# Altium footprint library TYPE-C-31-M-12.PcbLib: 1 footprints
Each footprint in its own frame and in the unit in brackets; x right, y up, seen from the top. Pads: shape width x height; smd on the part's side, far side on the other; paste and mask are expansions set on the pad; w line width, h text height; cw(c..) or ccw(c..) is an arc to the next point about the centre after c.
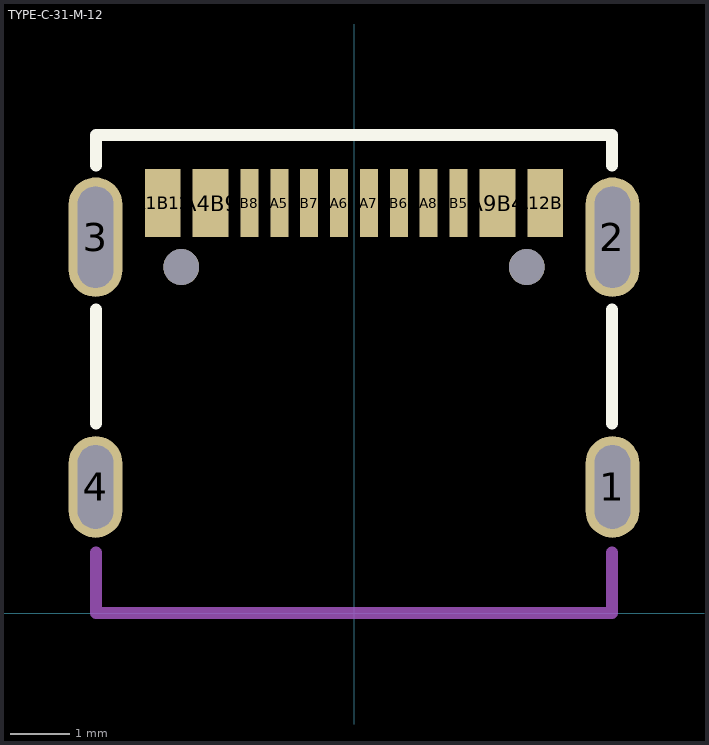
[diagram p0: the footprint, top view; thin cyan lines are the x and y axes]

## TYPE-C-31-M-12 [mm] "1 16P 5A Female Type-C SMD USB Connectors ROHS"
pads (18):
  oval 0.9x1.7 hole 0.6 slot 1.4 at 90 deg: 1(4.325,2.11) 4(-4.325,2.11)
  oval 0.9x2 hole 0.6 slot 1.7 at 90 deg: 2(4.325,6.29) 3(-4.325,6.29)
  rect 0.6x1.14 smd mask+0.05: A1B12(-3.2,6.86) A4B9(-2.4,6.86) A9B4(2.4,6.86) A12B1(3.2,6.86)
  rect 0.3x1.14 smd mask+0.05: A5(-1.25,6.86) A6(-0.25,6.86) A7(0.25,6.86) A8(1.25,6.86) B5(1.75,6.86) B6(0.75,6.86) B7(-0.75,6.86) B8(-1.75,6.86)
  round 0.6 hole 0.6 unplated mask+0: ""(-2.89,5.79) ""(2.89,5.79)
Top Overlay:
  lines w0.2: -4.318,3.175 -4.318,5.08 ; -4.318,7.493 -4.318,8.001 4.318,8.001 4.318,7.493 ; 4.318,3.175 4.318,5.08
Mechanical 1:
  lines w0.2: -4.318,1.016 -4.318,0 0,0 4.318,0 4.318,1.016
3D body "HRO_TYPE-C-31-M-12.step": height 3.16, standoff -1.04, extent -4.425,-0.45 4.525,7.45